# Altium footprint library 416 131 160 8xx.PcbLib: 6 footprints
Each footprint in its own frame and in the unit in brackets; x right, y up, seen from the top. Pads: shape width x height; smd on the part's side, far side on the other; paste and mask are expansions set on the pad; w line width, h text height; cw(c..) or ccw(c..) is an arc to the next point about the centre after c.
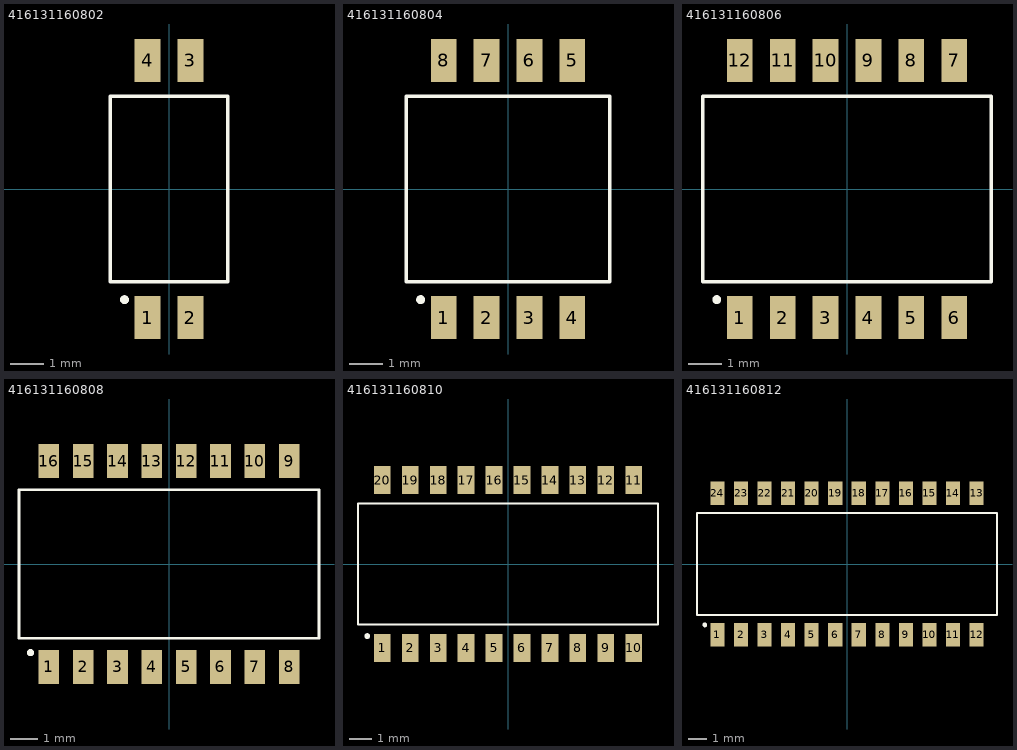
[diagram p0: the footprints below, top view; thin cyan lines are the x and y axes]

## 416131160802 [mm] "1.27mm Pitch, Horizontal, HP Type, SMT, flat Actuator, brown, with Tape, T&R, 2 poles"
height 2
pads (4):
  rect 0.76x1.27 smd: 1(-0.635,-3.81) 2(0.635,-3.81) 3(0.635,3.81) 4(-0.635,3.81)
Top Overlay:
  circle w0.2: c-1.32,-3.28 r0.032
  lines w0.1: -1.74,-2.75 1.74,-2.75 1.74,2.75 -1.74,2.75 -1.74,-2.75
3D body: height 2.7, standoff 0, extent -1.855,-4.22 1.855,4.22

## 416131160804 [mm] "1.27mm Pitch, Horizontal, HP Type, SMT, flat Actuator, brown, with Tape, T&R, 4 poles"
height 2
pads (8):
  rect 0.76x1.27 smd: 1(-1.905,-3.81) 2(-0.635,-3.81) 3(0.635,-3.81) 4(1.905,-3.81) 5(1.905,3.81) 6(0.635,3.81) 7(-0.635,3.81) 8(-1.905,3.81)
Top Overlay:
  circle w0.2: c-2.59,-3.28 r0.032
  lines w0.1: -3.01,-2.75 -3.01,2.75 3.01,2.75 3.01,-2.75 -3.01,-2.75
3D body: height 2.7, standoff 0, extent -3.125,-4.22 3.125,4.22

## 416131160806 [mm] "1.27mm Pitch, Horizontal, HP Type, SMT, flat Actuator, brown, with Tape, T&R, 6 poles"
height 2
pads (12):
  rect 0.76x1.27 smd: 1(-3.175,-3.81) 2(-1.905,-3.81) 3(-0.635,-3.81) 4(0.635,-3.81) 5(1.905,-3.81) 6(3.175,-3.81) 7(3.175,3.81) 8(1.905,3.81) 9(0.635,3.81) 10(-0.635,3.81) 11(-1.905,3.81) 12(-3.175,3.81)
Top Overlay:
  circle w0.2: c-3.86,-3.28 r0.032
  lines w0.1: -4.28,-2.75 -4.28,2.75 4.28,2.75 4.28,-2.75 -4.28,-2.75
3D body: height 2.7, standoff 0, extent -4.395,-4.22 4.395,4.22

## 416131160808 [mm] "1.27mm Pitch, Horizontal, HP Type, SMT, flat Actuator, brown, with Tape, T&R, 8 poles"
height 2
pads (16):
  rect 0.76x1.27 smd: 1(-4.445,-3.81) 2(-3.175,-3.81) 3(-1.905,-3.81) 4(-0.635,-3.81) 5(0.635,-3.81) 6(1.905,-3.81) 7(3.175,-3.81) 8(4.445,-3.81) 9(4.445,3.81) 10(3.175,3.81) 11(1.905,3.81) 12(0.635,3.81) 13(-0.635,3.81) 14(-1.905,3.81) 15(-3.175,3.81) 16(-4.445,3.81)
Top Overlay:
  circle w0.2: c-5.13,-3.28 r0.032
  lines w0.1: -5.55,-2.75 -5.55,2.75 5.55,2.75 5.55,-2.75 -5.55,-2.75
3D body: height 2.7, standoff 0, extent -5.665,-4.22 5.665,4.22

## 416131160810 [mm] "1.27mm Pitch, Horizontal, HP Type, SMT, flat Actuator, brown, with Tape, T&R, 10 poles"
height 2
pads (20):
  rect 0.76x1.27 smd: 1(-5.715,-3.81) 2(-4.445,-3.81) 3(-3.175,-3.81) 4(-1.905,-3.81) 5(-0.635,-3.81) 6(0.635,-3.81) 7(1.905,-3.81) 8(3.175,-3.81) 9(4.445,-3.81) 10(5.715,-3.81) 11(5.715,3.81) 12(4.445,3.81) 13(3.175,3.81) 14(1.905,3.81) 15(0.635,3.81) 16(-0.635,3.81) 17(-1.905,3.81) 18(-3.175,3.81) 19(-4.445,3.81) 20(-5.715,3.81)
Top Overlay:
  circle w0.2: c-6.4,-3.28 r0.032
  lines w0.1: -6.82,-2.75 -6.82,2.75 6.82,2.75 6.82,-2.75 -6.82,-2.75
3D body: height 2.7, standoff 0, extent -6.935,-4.22 6.935,4.22

## 416131160812 [mm] "1.27mm Pitch, Horizontal, HP Type, SMT, flat Actuator, brown, with Tape, T&R, 12 poles"
height 2
pads (24):
  rect 0.76x1.27 smd: 1(-6.985,-3.81) 2(-5.715,-3.81) 3(-4.445,-3.81) 4(-3.175,-3.81) 5(-1.905,-3.81) 6(-0.635,-3.81) 7(0.635,-3.81) 8(1.905,-3.81) 9(3.175,-3.81) 10(4.445,-3.81) 11(5.715,-3.81) 12(6.985,-3.81) 13(6.985,3.81) 14(5.715,3.81) 15(4.445,3.81) 16(3.175,3.81) 17(1.905,3.81) 18(0.635,3.81) 19(-0.635,3.81) 20(-1.905,3.81) 21(-3.175,3.81) 22(-4.445,3.81) 23(-5.715,3.81) 24(-6.985,3.81)
Top Overlay:
  circle w0.2: c-7.67,-3.28 r0.032
  lines w0.1: -8.09,-2.75 8.09,-2.75 8.09,2.75 -8.09,2.75 -8.09,-2.75
3D body: height 2.7, standoff 0, extent -8.205,-4.22 8.205,4.22